# Altium integrated library Dallas Peripheral Real Time Clock.IntLib: 167 symbols (part 3 of 4)
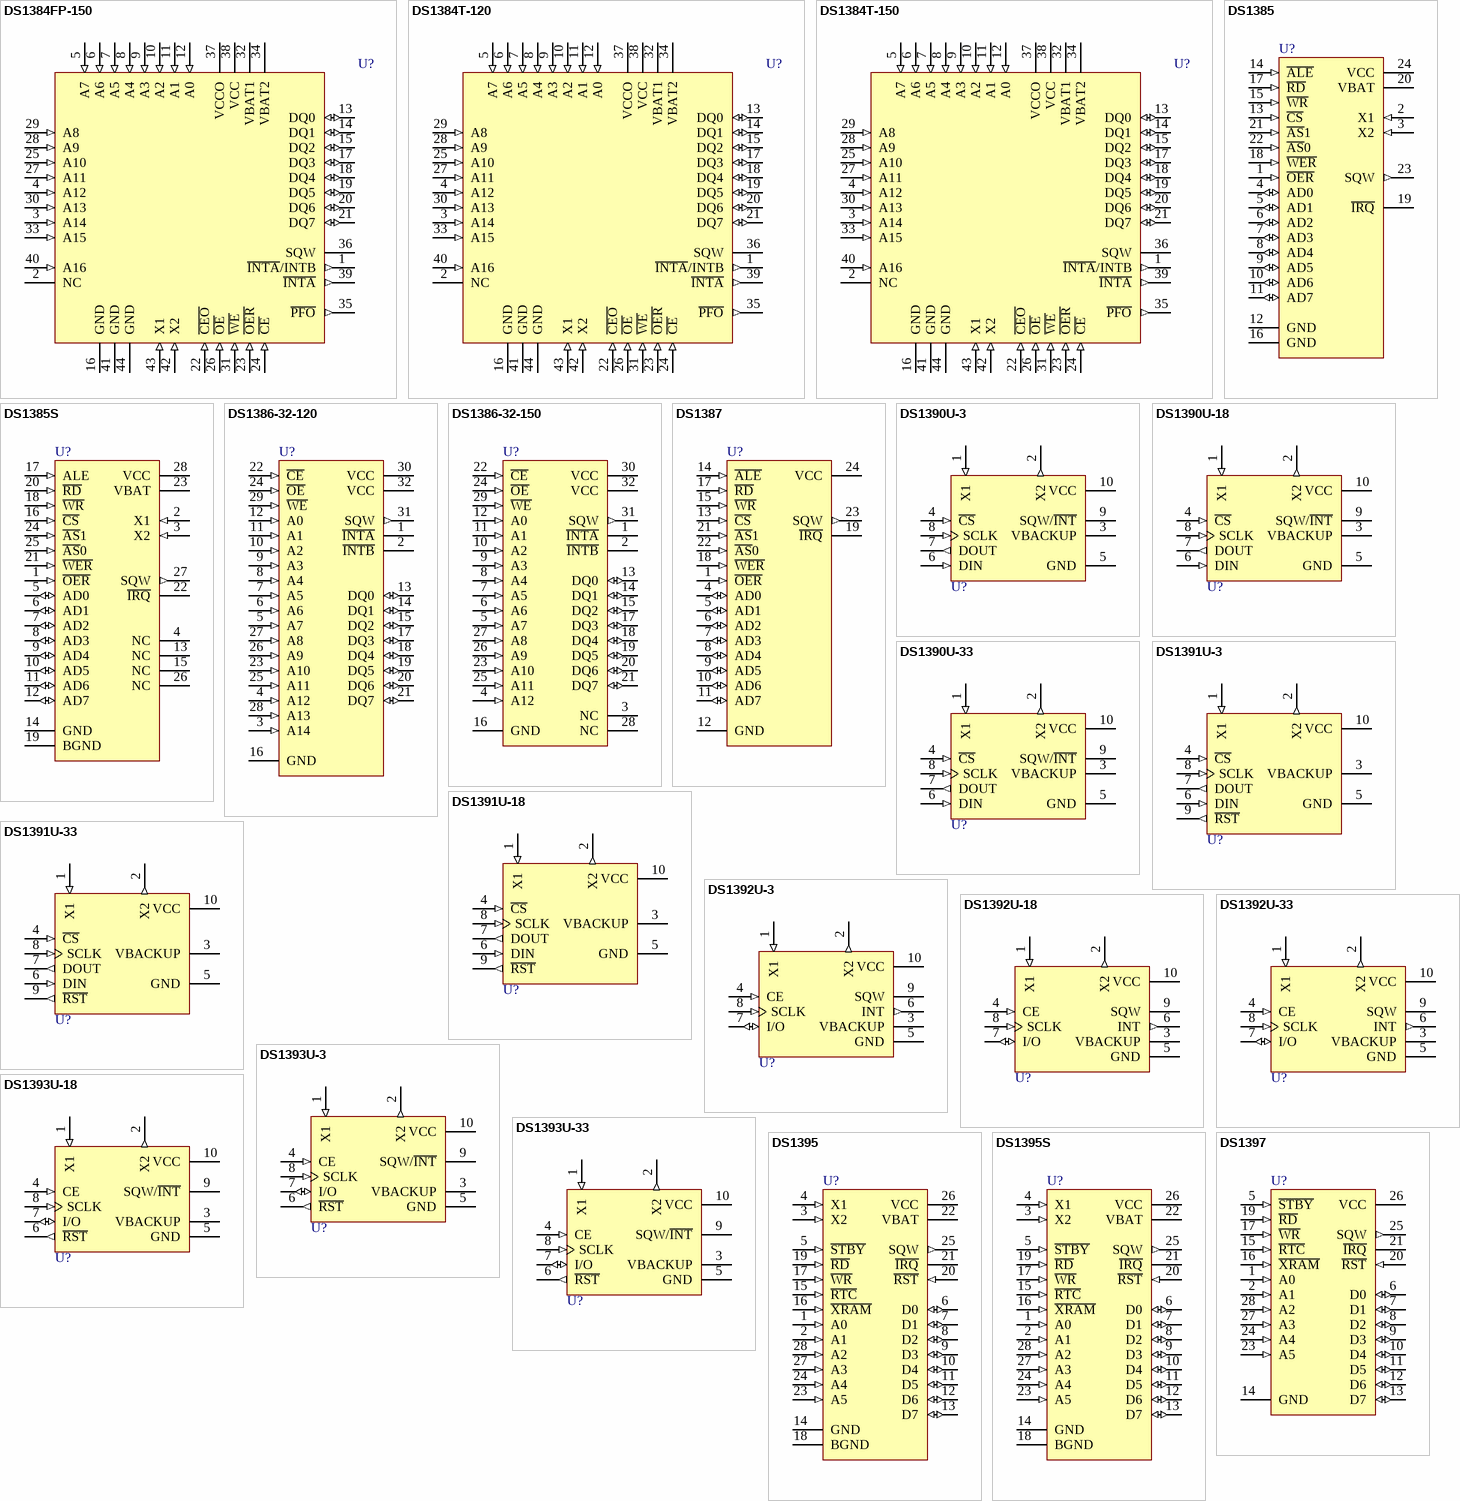
[diagram p8: symbols DS1384FP-150 to DS1397]

## DS1391U-3
designator U?
Real-Time Clock (RTC), Low-Voltage Serial-Peripheral Interface (SPI) with Trickle Charger, 3.0V, 10-Pin uMax/uSOP; Published: 6-Oct-2005; LatestRevisionDate: 20-Nov-2009; LatestRevisionNote: IPC-7351 Footprint Added.; DatasheetVersion: rev.0 Jul-2004; PackageVersion: Mar-2002; PackageReference: 10uSOP; Publisher: Altium Limited; PackageDescription: 10-Pin Thin Shrink Small Outline Package 0.5 mm Pitch; Code_JEDEC: MO-187C-BA; ComponentLink1Description: Manufacturer Link; ComponentLink1URL: http://www.maxim-ic.com/products/timers/real_time_clocks.cfm; ComponentLink2Description: Datasheet; ComponentLink2URL: http://pdfserv.maxim-ic.com/en/ds/DS1390-DS1393.pdf
footprint 10uSOP_N (TSSOP, 10-Leads, Body 3x3mm, Pitch 0.5mm, IPC Medium Density)
footprint 10uSOP_L (TSSOP, 10-Leads, Body 3x3mm, Pitch 0.5mm, IPC High Density)
footprint 10uSOP_M (TSSOP, 10-Leads, Body 3x3mm, Pitch 0.5mm, IPC Low Density)
pins: 1 X1 (in) "Internal Oscillator Input. Or connection to external 32.768kHz oscillator.", 2 X2 (out) "Internal Oscillator Output. Float if external oscillator connected to pin X1.", 3 VBACKUP (power) "DC Backup Power Input for Primary Cell.", 4 ~{CS} (in) "SPI Chip-Select Input. Used to select or deselect the device.", 5 GND (power) "Ground", 6 DIN (in) "SPI Data Input. Used to shift address and data into the device.", 7 DOUT (out) "SPI Data Output. Data is output when the device is in read mode.", 8 SCLK (in) "Serial Clock Input. Used to control the timing of data in and out.", 9 ~{RST} (out) "Reset. Active-low output indicates the status of VCC relative to the VPF specification.", 10 VCC (power) "DC Power Pin for Primary Power Supply."

## DS1391U-18
designator U?
Real-Time Clock (RTC), Low-Voltage Serial-Peripheral Interface (SPI) with Trickle Charger, 1.8V, 10-Pin uMax/uSOP; Published: 6-Oct-2005; LatestRevisionDate: 20-Nov-2009; LatestRevisionNote: IPC-7351 Footprint Added.; DatasheetVersion: rev.0 Jul-2004; PackageVersion: Mar-2002; PackageReference: 10uSOP; Publisher: Altium Limited; PackageDescription: 10-Pin Thin Shrink Small Outline Package 0.5 mm Pitch; Code_JEDEC: MO-187C-BA; ComponentLink1Description: Manufacturer Link; ComponentLink1URL: http://www.maxim-ic.com/products/timers/real_time_clocks.cfm; ComponentLink2Description: Datasheet; ComponentLink2URL: http://pdfserv.maxim-ic.com/en/ds/DS1390-DS1393.pdf
footprint 10uSOP_N (TSSOP, 10-Leads, Body 3x3mm, Pitch 0.5mm, IPC Medium Density)
footprint 10uSOP_L (TSSOP, 10-Leads, Body 3x3mm, Pitch 0.5mm, IPC High Density)
footprint 10uSOP_M (TSSOP, 10-Leads, Body 3x3mm, Pitch 0.5mm, IPC Low Density)
pins: 1 X1 (in) "Internal Oscillator Input. Or connection to external 32.768kHz oscillator.", 2 X2 (out) "Internal Oscillator Output. Float if external oscillator connected to pin X1.", 3 VBACKUP (power) "DC Backup Power Input for Primary Cell.", 4 ~{CS} (in) "SPI Chip-Select Input. Used to select or deselect the device.", 5 GND (power) "Ground", 6 DIN (in) "SPI Data Input. Used to shift address and data into the device.", 7 DOUT (out) "SPI Data Output. Data is output when the device is in read mode.", 8 SCLK (in) "Serial Clock Input. Used to control the timing of data in and out.", 9 ~{RST} (out) "Reset. Active-low output indicates the status of VCC relative to the VPF specification.", 10 VCC (power) "DC Power Pin for Primary Power Supply."

## DS1391U-33
designator U?
Real-Time Clock (RTC), Low-Voltage Serial-Peripheral Interface (SPI) with Trickle Charger, 3.3V, 10-Pin uMax/uSOP; Published: 6-Oct-2005; LatestRevisionDate: 20-Nov-2009; LatestRevisionNote: IPC-7351 Footprint Added.; DatasheetVersion: rev.0 Jul-2004; PackageVersion: Mar-2002; PackageReference: 10uSOP; Publisher: Altium Limited; PackageDescription: 10-Pin Thin Shrink Small Outline Package 0.5 mm Pitch; Code_JEDEC: MO-187C-BA; ComponentLink1Description: Manufacturer Link; ComponentLink1URL: http://www.maxim-ic.com/products/timers/real_time_clocks.cfm; ComponentLink2Description: Datasheet; ComponentLink2URL: http://pdfserv.maxim-ic.com/en/ds/DS1390-DS1393.pdf
footprint 10uSOP_N (TSSOP, 10-Leads, Body 3x3mm, Pitch 0.5mm, IPC Medium Density)
footprint 10uSOP_L (TSSOP, 10-Leads, Body 3x3mm, Pitch 0.5mm, IPC High Density)
footprint 10uSOP_M (TSSOP, 10-Leads, Body 3x3mm, Pitch 0.5mm, IPC Low Density)
pins: 1 X1 (in) "Internal Oscillator Input. Or connection to external 32.768kHz oscillator.", 2 X2 (out) "Internal Oscillator Output. Float if external oscillator connected to pin X1.", 3 VBACKUP (power) "DC Backup Power Input for Primary Cell.", 4 ~{CS} (in) "SPI Chip-Select Input. Used to select or deselect the device.", 5 GND (power) "Ground", 6 DIN (in) "SPI Data Input. Used to shift address and data into the device.", 7 DOUT (out) "SPI Data Output. Data is output when the device is in read mode.", 8 SCLK (in) "Serial Clock Input. Used to control the timing of data in and out.", 9 ~{RST} (out) "Reset. Active-low output indicates the status of VCC relative to the VPF specification.", 10 VCC (power) "DC Power Pin for Primary Power Supply."

## DS1392U-3
designator U?
Real-Time Clock (RTC), Low-Voltage 3-Wire Serial Bus with Trickle Charger, 3.0V, 10-Pin uMax/uSOP; Published: 6-Oct-2005; LatestRevisionDate: 20-Nov-2009; LatestRevisionNote: IPC-7351 Footprint Added.; DatasheetVersion: rev.0 Jul-2004; PackageVersion: Mar-2002; PackageReference: 10uSOP; Publisher: Altium Limited; PackageDescription: 10-Pin Thin Shrink Small Outline Package 0.5 mm Pitch; Code_JEDEC: MO-187C-BA; ComponentLink1Description: Manufacturer Link; ComponentLink1URL: http://www.maxim-ic.com/products/timers/real_time_clocks.cfm; ComponentLink2Description: Datasheet; ComponentLink2URL: http://pdfserv.maxim-ic.com/en/ds/DS1390-DS1393.pdf
footprint 10uSOP_N (TSSOP, 10-Leads, Body 3x3mm, Pitch 0.5mm, IPC Medium Density)
footprint 10uSOP_L (TSSOP, 10-Leads, Body 3x3mm, Pitch 0.5mm, IPC High Density)
footprint 10uSOP_M (TSSOP, 10-Leads, Body 3x3mm, Pitch 0.5mm, IPC Low Density)
pins: 1 X1 (in) "Internal Oscillator Input. Or connection to external 32.768kHz oscillator.", 2 X2 (out) "Internal Oscillator Output. Float if external oscillator connected to pin X1.", 3 VBACKUP (power) "DC Backup Power Input for Primary Cell.", 4 CE (in) "Chip Enable for 3-Wire Interface.", 5 GND (power) "Ground", 6 INT (out) "Interrupt Output. Used to output interrupt signal, if enabled by the control register.", 7 I/O (io) "Input/Output for 3-Wire Interface.", 8 SCLK (in) "Serial Clock Input. Used to control the timing of data in and out.", 9 SQW (oc) "Square-Wave Output.", 10 VCC (power) "DC Power Pin for Primary Power Supply."

## DS1392U-18
designator U?
Real-Time Clock (RTC), Low-Voltage 3-Wire Serial Bus with Trickle Charger, 1.8V, 10-Pin uMax/uSOP; Published: 6-Oct-2005; LatestRevisionDate: 20-Nov-2009; LatestRevisionNote: IPC-7351 Footprint Added.; DatasheetVersion: rev.0 Jul-2004; PackageVersion: Mar-2002; PackageReference: 10uSOP; Publisher: Altium Limited; PackageDescription: 10-Pin Thin Shrink Small Outline Package 0.5 mm Pitch; Code_JEDEC: MO-187C-BA; ComponentLink1Description: Manufacturer Link; ComponentLink1URL: http://www.maxim-ic.com/products/timers/real_time_clocks.cfm; ComponentLink2Description: Datasheet; ComponentLink2URL: http://pdfserv.maxim-ic.com/en/ds/DS1390-DS1393.pdf
footprint 10uSOP_N (TSSOP, 10-Leads, Body 3x3mm, Pitch 0.5mm, IPC Medium Density)
footprint 10uSOP_L (TSSOP, 10-Leads, Body 3x3mm, Pitch 0.5mm, IPC High Density)
footprint 10uSOP_M (TSSOP, 10-Leads, Body 3x3mm, Pitch 0.5mm, IPC Low Density)
pins: 1 X1 (in) "Internal Oscillator Input. Or connection to external 32.768kHz oscillator.", 2 X2 (out) "Internal Oscillator Output. Float if external oscillator connected to pin X1.", 3 VBACKUP (power) "DC Backup Power Input for Primary Cell.", 4 CE (in) "Chip Enable for 3-Wire Interface.", 5 GND (power) "Ground", 6 INT (out) "Interrupt Output. Used to output interrupt signal, if enabled by the control register.", 7 I/O (io) "Input/Output for 3-Wire Interface.", 8 SCLK (in) "Serial Clock Input. Used to control the timing of data in and out.", 9 SQW (oc) "Square-Wave Output.", 10 VCC (power) "DC Power Pin for Primary Power Supply."

## DS1392U-33
designator U?
Real-Time Clock (RTC), Low-Voltage 3-Wire Serial Bus with Trickle Charger, 3.3V, 10-Pin uMax/uSOP; Published: 6-Oct-2005; LatestRevisionDate: 20-Nov-2009; LatestRevisionNote: IPC-7351 Footprint Added.; DatasheetVersion: rev.0 Jul-2004; PackageVersion: Mar-2002; PackageReference: 10uSOP; Publisher: Altium Limited; PackageDescription: 10-Pin Thin Shrink Small Outline Package 0.5 mm Pitch; Code_JEDEC: MO-187C-BA; ComponentLink1Description: Manufacturer Link; ComponentLink1URL: http://www.maxim-ic.com/products/timers/real_time_clocks.cfm; ComponentLink2Description: Datasheet; ComponentLink2URL: http://pdfserv.maxim-ic.com/en/ds/DS1390-DS1393.pdf
footprint 10uSOP_N (TSSOP, 10-Leads, Body 3x3mm, Pitch 0.5mm, IPC Medium Density)
footprint 10uSOP_L (TSSOP, 10-Leads, Body 3x3mm, Pitch 0.5mm, IPC High Density)
footprint 10uSOP_M (TSSOP, 10-Leads, Body 3x3mm, Pitch 0.5mm, IPC Low Density)
pins: 1 X1 (in) "Internal Oscillator Input. Or connection to external 32.768kHz oscillator.", 2 X2 (out) "Internal Oscillator Output. Float if external oscillator connected to pin X1.", 3 VBACKUP (power) "DC Backup Power Input for Primary Cell.", 4 CE (in) "Chip Enable for 3-Wire Interface.", 5 GND (power) "Ground", 6 INT (out) "Interrupt Output. Used to output interrupt signal, if enabled by the control register.", 7 I/O (io) "Input/Output for 3-Wire Interface.", 8 SCLK (in) "Serial Clock Input. Used to control the timing of data in and out.", 9 SQW (oc) "Square-Wave Output.", 10 VCC (power) "DC Power Pin for Primary Power Supply."

## DS1393U-3
designator U?
Real-Time Clock (RTC), Low-Voltage 3-Wire Serial Bus with Trickle Charger, 3.0V, 10-Pin uMax/uSOP; Published: 6-Oct-2005; LatestRevisionDate: 20-Nov-2009; LatestRevisionNote: IPC-7351 Footprint Added.; DatasheetVersion: rev.0 Jul-2004; PackageVersion: Mar-2002; PackageReference: 10uSOP; Publisher: Altium Limited; PackageDescription: 10-Pin Thin Shrink Small Outline Package 0.5 mm Pitch; Code_JEDEC: MO-187C-BA; ComponentLink1Description: Manufacturer Link; ComponentLink1URL: http://www.maxim-ic.com/products/timers/real_time_clocks.cfm; ComponentLink2Description: Datasheet; ComponentLink2URL: http://pdfserv.maxim-ic.com/en/ds/DS1390-DS1393.pdf
footprint 10uSOP_N (TSSOP, 10-Leads, Body 3x3mm, Pitch 0.5mm, IPC Medium Density)
footprint 10uSOP_L (TSSOP, 10-Leads, Body 3x3mm, Pitch 0.5mm, IPC High Density)
footprint 10uSOP_M (TSSOP, 10-Leads, Body 3x3mm, Pitch 0.5mm, IPC Low Density)
pins: 1 X1 (in) "Internal Oscillator Input. Or connection to external 32.768kHz oscillator.", 2 X2 (out) "Internal Oscillator Output. Float if external oscillator connected to pin X1.", 3 VBACKUP (power) "DC Backup Power Input for Primary Cell.", 4 CE (in) "Chip Enable for 3-Wire Interface.", 5 GND (power) "Ground", 6 ~{RST} (out) "Reset. Active-low output indicates the status of VCC relative to the VPF specification.", 7 I/O (io) "Input/Output for 3-Wire Interface.", 8 SCLK (in) "Serial Clock Input. Used to control the timing of data in and out.", 9 SQW/~{INT} (oc) "Square-Wave/Interrupt Output.", 10 VCC (power) "DC Power Pin for Primary Power Supply."

## DS1393U-18
designator U?
Real-Time Clock (RTC), Low-Voltage 3-Wire Serial Bus with Trickle Charger, 1.8V, 10-Pin uMax/uSOP; Published: 6-Oct-2005; LatestRevisionDate: 20-Nov-2009; LatestRevisionNote: IPC-7351 Footprint Added.; DatasheetVersion: rev.0 Jul-2004; PackageVersion: Mar-2002; PackageReference: 10uSOP; Publisher: Altium Limited; PackageDescription: 10-Pin Thin Shrink Small Outline Package 0.5 mm Pitch; Code_JEDEC: MO-187C-BA; ComponentLink1Description: Manufacturer Link; ComponentLink1URL: http://www.maxim-ic.com/products/timers/real_time_clocks.cfm; ComponentLink2Description: Datasheet; ComponentLink2URL: http://pdfserv.maxim-ic.com/en/ds/DS1390-DS1393.pdf
footprint 10uSOP_N (TSSOP, 10-Leads, Body 3x3mm, Pitch 0.5mm, IPC Medium Density)
footprint 10uSOP_L (TSSOP, 10-Leads, Body 3x3mm, Pitch 0.5mm, IPC High Density)
footprint 10uSOP_M (TSSOP, 10-Leads, Body 3x3mm, Pitch 0.5mm, IPC Low Density)
pins: 1 X1 (in) "Internal Oscillator Input. Or connection to external 32.768kHz oscillator.", 2 X2 (out) "Internal Oscillator Output. Float if external oscillator connected to pin X1.", 3 VBACKUP (power) "DC Backup Power Input for Primary Cell.", 4 CE (in) "Chip Enable for 3-Wire Interface.", 5 GND (power) "Ground", 6 ~{RST} (out) "Reset. Active-low output indicates the status of VCC relative to the VPF specification.", 7 I/O (io) "Input/Output for 3-Wire Interface.", 8 SCLK (in) "Serial Clock Input. Used to control the timing of data in and out.", 9 SQW/~{INT} (oc) "Square-Wave/Interrupt Output.", 10 VCC (power) "DC Power Pin for Primary Power Supply."

## DS1393U-33
designator U?
Real-Time Clock (RTC), Low-Voltage 3-Wire Serial Bus with Trickle Charger, 3.3V, 10-Pin uMax/uSOP; Published: 6-Oct-2005; LatestRevisionDate: 20-Nov-2009; LatestRevisionNote: IPC-7351 Footprint Added.; DatasheetVersion: rev.0 Jul-2004; PackageVersion: Mar-2002; PackageReference: 10uSOP; Publisher: Altium Limited; PackageDescription: 10-Pin Thin Shrink Small Outline Package 0.5 mm Pitch; Code_JEDEC: MO-187C-BA; ComponentLink1Description: Manufacturer Link; ComponentLink1URL: http://www.maxim-ic.com/products/timers/real_time_clocks.cfm; ComponentLink2Description: Datasheet; ComponentLink2URL: http://pdfserv.maxim-ic.com/en/ds/DS1390-DS1393.pdf
footprint 10uSOP_N (TSSOP, 10-Leads, Body 3x3mm, Pitch 0.5mm, IPC Medium Density)
footprint 10uSOP_L (TSSOP, 10-Leads, Body 3x3mm, Pitch 0.5mm, IPC High Density)
footprint 10uSOP_M (TSSOP, 10-Leads, Body 3x3mm, Pitch 0.5mm, IPC Low Density)
pins: 1 X1 (in) "Internal Oscillator Input. Or connection to external 32.768kHz oscillator.", 2 X2 (out) "Internal Oscillator Output. Float if external oscillator connected to pin X1.", 3 VBACKUP (power) "DC Backup Power Input for Primary Cell.", 4 CE (in) "Chip Enable for 3-Wire Interface.", 5 GND (power) "Ground", 6 ~{RST} (out) "Reset. Active-low output indicates the status of VCC relative to the VPF specification.", 7 I/O (io) "Input/Output for 3-Wire Interface.", 8 SCLK (in) "Serial Clock Input. Used to control the timing of data in and out.", 9 SQW/~{INT} (oc) "Square-Wave/Interrupt Output.", 10 VCC (power) "DC Power Pin for Primary Power Supply."

## DS1395
designator U?
RAMified Real-Time Clock; Published: 13-Oct-2000; LatestRevisionDate: 17-Jul-2002; LatestRevisionNote: Re-released for DXP Platform.; DatasheetVersion: 8-May-1998; PackageVersion: 1999; PackageReference: DIP28W; Publisher: Altium Limited; PackageDescription: DIP, 28-Pin, Row Spacing 15.24 mm, Pitch 2.54 mm; ComponentLink1Description: Manufacturer Link; ComponentLink1URL: http://www.maxim-ic.com/
footprint DIP28W (DIP, 28-Leads, Row Spacing 15.24mm, Pitch 2.54mm, Body 37.02x13.72mm)
pins: 1 A0 (in), 2 A1 (in), 3 X2 (in), 4 X1 (in), 5 ~{STBY} (in), 6 D0 (io), 7 D1 (io), 8 D2 (io), 9 D3 (io), 10 D4 (io), 11 D5 (io), 12 D6 (io), 13 D7 (io), 14 GND (power), 15 ~{RTC} (in), 16 ~{XRAM} (in), 17 ~{WR} (in), 18 BGND (power), 19 ~{RD} (in), 20 ~{RST} (in), 21 ~{IRQ} (oc), 22 VBAT (power), 23 A5 (in), 24 A4 (in), 25 SQW (out), 26 VCC (power), 27 A3 (in), 28 A2 (in)

## DS1395S
designator U?
RAMified Real-Time Clock; Published: 13-Oct-2000; LatestRevisionDate: 13-Apr-2006; LatestRevisionNote: IPC-7351 Footprint Added.; DatasheetVersion: 8-May-1998; PackageVersion: 1999; PackageReference: SOIC28VW; Publisher: Altium Limited; PackageDescription: 28-Pin Small Outline Integrated Circuit 1.27 mm Pitch; ComponentLink1Description: Manufacturer Link; ComponentLink1URL: http://www.maxim-ic.com/
footprint SOIC28VW_N (SOIC, 28-Leads, Body 18.2x8.7mm, Pitch 1.27mm, IPC Medium Density)
footprint SOIC28VW_L (SOIC, 28-Leads, Body 18.2x8.7mm, Pitch 1.27mm, IPC High Density)
footprint SOIC28VW_M (SOIC, 28-Leads, Body 18.2x8.7mm, Pitch 1.27mm, IPC Low Density)
pins: 1 A0 (in), 2 A1 (in), 3 X2 (in), 4 X1 (in), 5 ~{STBY} (in), 6 D0 (io), 7 D1 (io), 8 D2 (io), 9 D3 (io), 10 D4 (io), 11 D5 (io), 12 D6 (io), 13 D7 (io), 14 GND (power), 15 ~{RTC} (in), 16 ~{XRAM} (in), 17 ~{WR} (in), 18 BGND (power), 19 ~{RD} (in), 20 ~{RST} (in), 21 ~{IRQ} (oc), 22 VBAT (power), 23 A5 (in), 24 A4 (in), 25 SQW (out), 26 VCC (power), 27 A3 (in), 28 A2 (in)

## DS1397
designator U?
RAMified Real-Time Clock; Note: Pin numbers  3, 4, 18 and 22 are Not Connected (NC); Published: 13-Oct-2000; LatestRevisionDate: 17-Jul-2002; LatestRevisionNote: PCB footprint, 'DIP-P24(28)/X1.2' replaced; Re-released for DXP Platform.; DatasheetVersion: 8-May-1998; PackageReference: ENDIP28J; Publisher: Altium Limited; PackageDescription: DIP; 28 Rectangular pins (4 Absent); Row Space 15.24 mm; Pitch 2.54 mm; ComponentLink1Description: Manufacturer Link; ComponentLink1URL: http://www.maxim-ic.com/
footprint ENDIP28J (DIP; 28 Rectangular pins (4 Absent); Row Space 15.24 mm; Pitch 2.54 mm)
pins: 1 A0 (in), 2 A1 (in), 5 ~{STBY} (in), 6 D0 (io), 7 D1 (io), 8 D2 (io), 9 D3 (io), 10 D4 (io), 11 D5 (io), 12 D6 (io), 13 D7 (io), 14 GND (power), 15 ~{RTC} (in), 16 ~{XRAM} (in), 17 ~{WR} (in), 19 ~{RD} (in), 20 ~{RST} (in), 21 ~{IRQ} (oc), 23 A5 (in), 24 A4 (in), 25 SQW (out), 26 VCC (power), 27 A3 (in), 28 A2 (in)

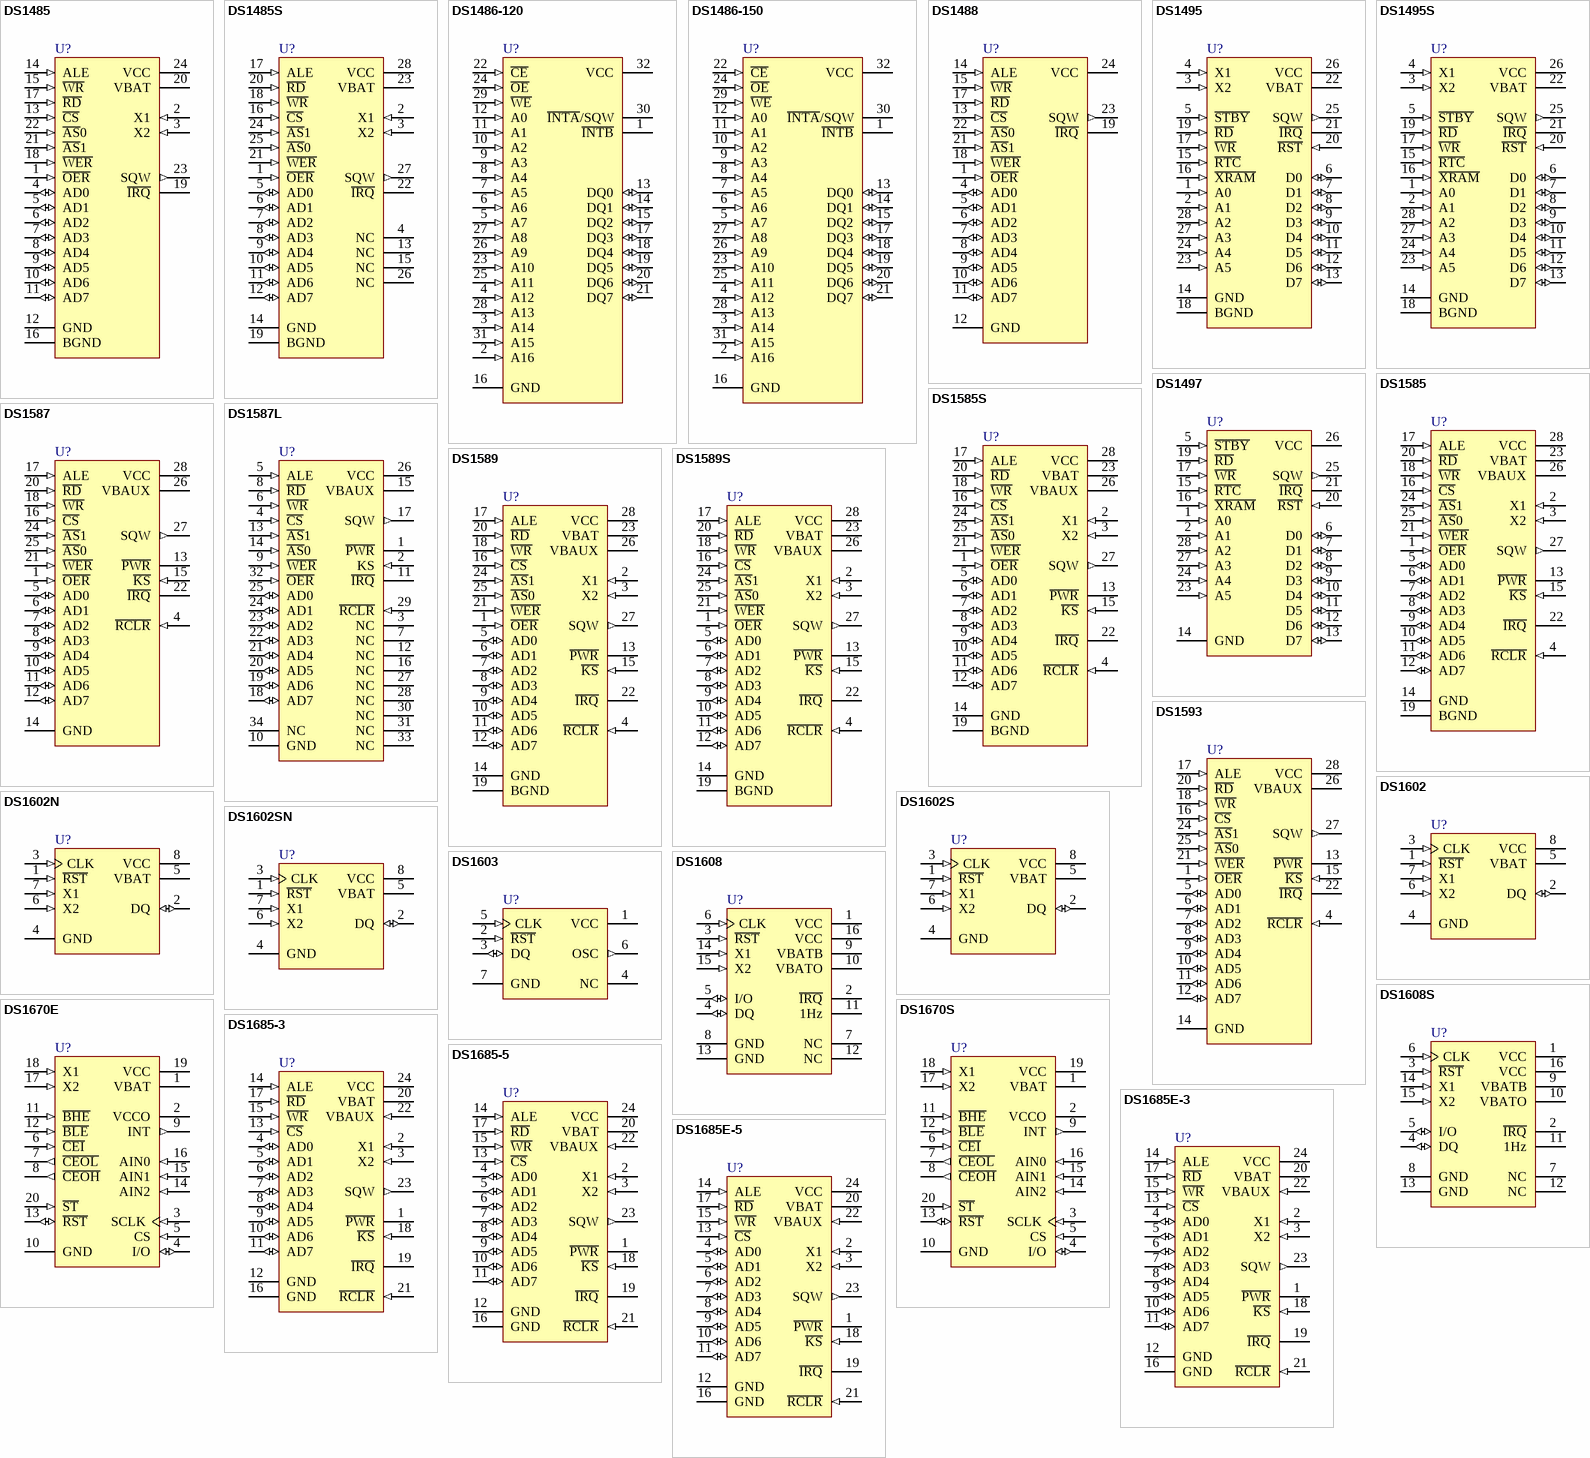
[diagram p4: symbols DS1485 to DS1685E-5]

## DS1485
designator U?
RAMified Real-Time Clock 8K x 8; Published: 13-Oct-2000; LatestRevisionDate: 17-Jul-2002; LatestRevisionNote: Re-released for DXP Platform.; DatasheetVersion: 8-May-1998; PackageVersion: 1999; PackageReference: DIP24W; Publisher: Altium Limited; PackageDescription: DIP, 24-Pin, Row Spacing 15.24 mm, Pitch 2.54 mm; ComponentLink1Description: Manufacturer Link; ComponentLink1URL: http://www.maxim-ic.com/
footprint DIP24W (DIP, 24-Leads, Row Spacing 15.24mm, Pitch 2.54mm, Body 31.94x13.72mm)
pins: 1 ~{OER} (in), 2 X1 (in), 3 X2 (in), 4 AD0 (io), 5 AD1 (io), 6 AD2 (io), 7 AD3 (io), 8 AD4 (io), 9 AD5 (io), 10 AD6 (io), 11 AD7 (io), 12 GND (power), 13 ~{CS} (in), 14 ALE (in), 15 ~{WR} (in), 16 BGND (power), 17 ~{RD} (in), 18 ~{WER} (in), 19 ~{IRQ} (oc), 20 VBAT (power), 21 ~{AS}1 (in), 22 ~{AS}0 (in), 23 SQW (out), 24 VCC (power)

## DS1485S
designator U?
RAMified Real-Time Clock 8K x 8; Note: Pin numbers  4, 13, 15 and 26 are Not Connected (NC); Published: 13-Oct-2000; LatestRevisionDate: 13-Apr-2006; LatestRevisionNote: IPC-7351 Footprint Added.; DatasheetVersion: 8-May-1998; PackageVersion: 1999; PackageReference: SOIC28VW; Publisher: Altium Limited; PackageDescription: 28-Pin Small Outline Integrated Circuit 1.27 mm Pitch; ComponentLink1Description: Manufacturer Link; ComponentLink1URL: http://www.maxim-ic.com/
footprint SOIC28VW_N (SOIC, 28-Leads, Body 18.2x8.7mm, Pitch 1.27mm, IPC Medium Density)
footprint SOIC28VW_L (SOIC, 28-Leads, Body 18.2x8.7mm, Pitch 1.27mm, IPC High Density)
footprint SOIC28VW_M (SOIC, 28-Leads, Body 18.2x8.7mm, Pitch 1.27mm, IPC Low Density)
pins: 1 ~{OER} (in), 2 X1 (in), 3 X2 (in), 4 NC, 5 AD0 (io), 6 AD1 (io), 7 AD2 (io), 8 AD3 (io), 9 AD4 (io), 10 AD5 (io), 11 AD6 (io), 12 AD7 (io), 13 NC, 14 GND (power), 15 NC, 16 ~{CS} (in), 17 ALE (in), 18 ~{WR} (in), 19 BGND (power), 20 ~{RD} (in), 21 ~{WER} (in), 22 ~{IRQ} (oc), 23 VBAT (power), 24 ~{AS}1 (in), 25 ~{AS}0 (in), 26 NC, 27 SQW (out), 28 VCC (power)

## DS1486-120
designator U?
RAMified Watchdog Timekeeper; Published: 13-Oct-2000; LatestRevisionDate: 17-Jul-2002; LatestRevisionNote: PCB footprint, 'DIP-P32/Y1.2' replaced; Re-released for DXP Platform.; DatasheetVersion: 20-Aug-1999; PackageReference: ENDIP32A; Publisher: Altium Limited; PackageDescription: DIP; 32 Rectangular Pins; Row Space 15.24 mm; Pitch 2.54 mm; ComponentLink1Description: Manufacturer Link; ComponentLink1URL: http://www.maxim-ic.com/; ComponentLink2Description: Datasheet; ComponentLink2URL: http://pdfserv.maxim-ic.com/en/ds/DS1486-DS1486P.pdf; ComponentLink3Description: Discontinuation Notice; ComponentLink3URL: http://www.maxim-ic.com/qa/pdfs/non-obsolescence-letter.pdf
footprint ENDIP32A (DIP; 32 Rectangular Pins; Row Space 15.24 mm; Pitch 2.54 mm)
pins: 1 ~{INTB} (oc), 2 A16 (in), 3 A14 (in), 4 A12 (in), 5 A7 (in), 6 A6 (in), 7 A5 (in), 8 A4 (in), 9 A3 (in), 10 A2 (in), 11 A1 (in), 12 A0 (in), 13 DQ0 (io), 14 DQ1 (io), 15 DQ2 (io), 16 GND (power), 17 DQ3 (io), 18 DQ4 (io), 19 DQ5 (io), 20 DQ6 (io), 21 DQ7 (io), 22 ~{CE} (in), 23 A10 (in), 24 ~{OE} (in), 25 A11 (in), 26 A9 (in), 27 A8 (in), 28 A13 (in), 29 ~{WE} (in), 30 ~{INTA}/SQW (oc), 31 A15 (in), 32 VCC (power)

## DS1486-150
designator U?
RAMified Watchdog Timekeeper; Published: 13-Oct-2000; LatestRevisionDate: 17-Jul-2002; LatestRevisionNote: PCB footprint, 'DIP-P32/Y1.2' replaced; Re-released for DXP Platform.; DatasheetVersion: 20-Aug-1999; PackageReference: ENDIP32A; Publisher: Altium Limited; PackageDescription: DIP; 32 Rectangular Pins; Row Space 15.24 mm; Pitch 2.54 mm; ComponentLink1Description: Manufacturer Link; ComponentLink1URL: http://www.maxim-ic.com/; ComponentLink2Description: Datasheet; ComponentLink2URL: http://pdfserv.maxim-ic.com/en/ds/DS1486-DS1486P.pdf; ComponentLink3Description: Discontinuation Notice; ComponentLink3URL: http://www.maxim-ic.com/qa/pdfs/non-obsolescence-letter.pdf
footprint ENDIP32A (DIP; 32 Rectangular Pins; Row Space 15.24 mm; Pitch 2.54 mm)
pins: 1 ~{INTB} (oc), 2 A16 (in), 3 A14 (in), 4 A12 (in), 5 A7 (in), 6 A6 (in), 7 A5 (in), 8 A4 (in), 9 A3 (in), 10 A2 (in), 11 A1 (in), 12 A0 (in), 13 DQ0 (io), 14 DQ1 (io), 15 DQ2 (io), 16 GND (power), 17 DQ3 (io), 18 DQ4 (io), 19 DQ5 (io), 20 DQ6 (io), 21 DQ7 (io), 22 ~{CE} (in), 23 A10 (in), 24 ~{OE} (in), 25 A11 (in), 26 A9 (in), 27 A8 (in), 28 A13 (in), 29 ~{WE} (in), 30 ~{INTA}/SQW (oc), 31 A15 (in), 32 VCC (power)

## DS1488
designator U?
RAMified Real-Time Clock 8K x 8; Note: Pin numbers  2, 3, 16 and 20 are Not Connected (NC); Published: 13-Oct-2000; LatestRevisionDate: 17-Jul-2002; LatestRevisionNote: Re-released for DXP Platform.; DatasheetVersion: 8-May-1998; PackageReference: ENDIP24D; Publisher: Altium Limited; PackageDescription: DIP; 24 Rectangular pins (4 Absent); Row Space 15.24 mm; Pitch 2.54 mm; ComponentLink1Description: Manufacturer Link; ComponentLink1URL: http://www.maxim-ic.com/
footprint ENDIP24D (DIP; 24 Rectangular pins (4 Absent); Row Space 15.24 mm; Pitch 2.54 mm)
pins: 1 ~{OER} (in), 4 AD0 (io), 5 AD1 (io), 6 AD2 (io), 7 AD3 (io), 8 AD4 (io), 9 AD5 (io), 10 AD6 (io), 11 AD7 (io), 12 GND (power), 13 ~{CS} (in), 14 ALE (in), 15 ~{WR} (in), 17 ~{RD} (in), 18 ~{WER} (in), 19 ~{IRQ} (oc), 21 ~{AS}1 (in), 22 ~{AS}0 (in), 23 SQW (out), 24 VCC (power)

## DS1495
designator U?
RAMified Real-Time Clock; Published: 13-Oct-2000; LatestRevisionDate: 17-Jul-2002; LatestRevisionNote: Re-released for DXP Platform.; DatasheetVersion: 8-May-1998; PackageVersion: 1999; PackageReference: DIP28W; Publisher: Altium Limited; PackageDescription: DIP, 28-Pin, Row Spacing 15.24 mm, Pitch 2.54 mm; ComponentLink1Description: Manufacturer Link; ComponentLink1URL: http://www.maxim-ic.com/
footprint DIP28W (DIP, 28-Leads, Row Spacing 15.24mm, Pitch 2.54mm, Body 37.02x13.72mm)
pins: 1 A0 (in), 2 A1 (in), 3 X2 (in), 4 X1 (in), 5 ~{STBY} (in), 6 D0 (io), 7 D1 (io), 8 D2 (io), 9 D3 (io), 10 D4 (io), 11 D5 (io), 12 D6 (io), 13 D7 (io), 14 GND (power), 15 ~{RTC} (in), 16 ~{XRAM} (in), 17 ~{WR} (in), 18 BGND (power), 19 ~{RD} (in), 20 ~{RST} (in), 21 ~{IRQ} (oc), 22 VBAT (power), 23 A5 (in), 24 A4 (in), 25 SQW (out), 26 VCC (power), 27 A3 (in), 28 A2 (in)

## DS1495S
designator U?
RAMified Real-Time Clock; Published: 13-Oct-2000; LatestRevisionDate: 13-Apr-2006; LatestRevisionNote: IPC-7351 Footprint Added.; DatasheetVersion: 8-May-1998; PackageVersion: 1999; PackageReference: SOIC28VW; Publisher: Altium Limited; PackageDescription: 28-Pin Small Outline Integrated Circuit 1.27 mm Pitch; ComponentLink1Description: Manufacturer Link; ComponentLink1URL: http://www.maxim-ic.com/
footprint SOIC28VW_N (SOIC, 28-Leads, Body 18.2x8.7mm, Pitch 1.27mm, IPC Medium Density)
footprint SOIC28VW_L (SOIC, 28-Leads, Body 18.2x8.7mm, Pitch 1.27mm, IPC High Density)
footprint SOIC28VW_M (SOIC, 28-Leads, Body 18.2x8.7mm, Pitch 1.27mm, IPC Low Density)
pins: 1 A0 (in), 2 A1 (in), 3 X2 (in), 4 X1 (in), 5 ~{STBY} (in), 6 D0 (io), 7 D1 (io), 8 D2 (io), 9 D3 (io), 10 D4 (io), 11 D5 (io), 12 D6 (io), 13 D7 (io), 14 GND (power), 15 ~{RTC} (in), 16 ~{XRAM} (in), 17 ~{WR} (in), 18 BGND (power), 19 ~{RD} (in), 20 ~{RST} (in), 21 ~{IRQ} (oc), 22 VBAT (power), 23 A5 (in), 24 A4 (in), 25 SQW (out), 26 VCC (power), 27 A3 (in), 28 A2 (in)

## DS1497
designator U?
RAMified Real-Time Clock; Note: Pin numbers  3, 4, 18 and 22 are Not Connected (NC); Published: 13-Oct-2000; LatestRevisionDate: 17-Jul-2002; LatestRevisionNote: PCB footprint, 'DIP-P24(28)/X1.2' replaced; Re-released for DXP Platform.; DatasheetVersion: 8-May-1998; PackageReference: ENDIP28J; Publisher: Altium Limited; PackageDescription: DIP; 28 Rectangular pins (4 Absent); Row Space 15.24 mm; Pitch 2.54 mm; ComponentLink1Description: Manufacturer Link; ComponentLink1URL: http://www.maxim-ic.com/
footprint ENDIP28J (DIP; 28 Rectangular pins (4 Absent); Row Space 15.24 mm; Pitch 2.54 mm)
pins: 1 A0 (in), 2 A1 (in), 5 ~{STBY} (in), 6 D0 (io), 7 D1 (io), 8 D2 (io), 9 D3 (io), 10 D4 (io), 11 D5 (io), 12 D6 (io), 13 D7 (io), 14 GND (power), 15 ~{RTC} (in), 16 ~{XRAM} (in), 17 ~{WR} (in), 19 ~{RD} (in), 20 ~{RST} (in), 21 ~{IRQ} (oc), 23 A5 (in), 24 A4 (in), 25 SQW (out), 26 VCC (power), 27 A3 (in), 28 A2 (in)

## DS1585
designator U?
Serialized Real-Time Clock; Published: 13-Oct-2000; LatestRevisionDate: 17-Jul-2002; LatestRevisionNote: Re-released for DXP Platform.; DatasheetVersion: 8-May-1998; PackageVersion: 1999; PackageReference: DIP28W; Publisher: Altium Limited; PackageDescription: DIP, 28-Pin, Row Spacing 15.24 mm, Pitch 2.54 mm; ComponentLink1Description: Manufacturer Link; ComponentLink1URL: http://www.maxim-ic.com/
footprint DIP28W (DIP, 28-Leads, Row Spacing 15.24mm, Pitch 2.54mm, Body 37.02x13.72mm)
pins: 1 ~{OER} (in), 2 X1 (in), 3 X2 (in), 4 ~{RCLR} (in), 5 AD0 (io), 6 AD1 (io), 7 AD2 (io), 8 AD3 (io), 9 AD4 (io), 10 AD5 (io), 11 AD6 (io), 12 AD7 (io), 13 ~{PWR} (oc), 14 GND (power), 15 ~{KS} (in), 16 ~{CS} (in), 17 ALE (in), 18 ~{WR} (in), 19 BGND (power), 20 ~{RD} (in), 21 ~{WER} (in), 22 ~{IRQ} (oc), 23 VBAT (power), 24 ~{AS}1 (in), 25 ~{AS}0 (in), 26 VBAUX (power), 27 SQW (out), 28 VCC (power)

## DS1585S
designator U?
Serialized Real-Time Clock; Published: 13-Oct-2000; LatestRevisionDate: 13-Apr-2006; LatestRevisionNote: IPC-7351 Footprint Added.; DatasheetVersion: 8-May-1998; PackageVersion: 1999; PackageReference: SOIC28VW; Publisher: Altium Limited; PackageDescription: 28-Pin Small Outline Integrated Circuit 1.27 mm Pitch; ComponentLink1Description: Manufacturer Link; ComponentLink1URL: http://www.maxim-ic.com/
footprint SOIC28VW_N (SOIC, 28-Leads, Body 18.2x8.7mm, Pitch 1.27mm, IPC Medium Density)
footprint SOIC28VW_L (SOIC, 28-Leads, Body 18.2x8.7mm, Pitch 1.27mm, IPC High Density)
footprint SOIC28VW_M (SOIC, 28-Leads, Body 18.2x8.7mm, Pitch 1.27mm, IPC Low Density)
pins: 1 ~{OER} (in), 2 X1 (in), 3 X2 (in), 4 ~{RCLR} (in), 5 AD0 (io), 6 AD1 (io), 7 AD2 (io), 8 AD3 (io), 9 AD4 (io), 10 AD5 (io), 11 AD6 (io), 12 AD7 (io), 13 ~{PWR} (oc), 14 GND (power), 15 ~{KS} (in), 16 ~{CS} (in), 17 ALE (in), 18 ~{WR} (in), 19 BGND (power), 20 ~{RD} (in), 21 ~{WER} (in), 22 ~{IRQ} (oc), 23 VBAT (power), 24 ~{AS}1 (in), 25 ~{AS}0 (in), 26 VBAUX (power), 27 SQW (out), 28 VCC (power)

## DS1587
designator U?
Serialized Real-Time Clock; Note: Pin numbers  2, 3, 19 and 23 are Not Connected (NC); Published: 13-Oct-2000; LatestRevisionDate: 17-Jul-2002; LatestRevisionNote: Re-released for DXP Platform.; DatasheetVersion: 8-May-1998; PackageReference: ENDIP28H; Publisher: Altium Limited; PackageDescription: DIP; 28 Rectangular pins (4 Absent); Row Space 15.24 mm; Pitch 2.54 mm; ComponentLink1Description: Manufacturer Link; ComponentLink1URL: http://www.maxim-ic.com/
footprint ENDIP28H (DIP; 28 Rectangular pins (4 Absent); Row Space 15.24 mm; Pitch 2.54 mm)
pins: 1 ~{OER} (in), 4 ~{RCLR} (in), 5 AD0 (io), 6 AD1 (io), 7 AD2 (io), 8 AD3 (io), 9 AD4 (io), 10 AD5 (io), 11 AD6 (io), 12 AD7 (io), 13 ~{PWR} (oc), 14 GND (power), 15 ~{KS} (in), 16 ~{CS} (in), 17 ALE (in), 18 ~{WR} (in), 20 ~{RD} (in), 21 ~{WER} (in), 22 ~{IRQ} (oc), 24 ~{AS}1 (in), 25 ~{AS}0 (in), 26 VBAUX (power), 27 SQW (out), 28 VCC (power)

## DS1587L
designator U?
Serialized Real-Time Clock; Note: Pin numbers  3, 7, 12, 16, 27, 28, 30, 31, 33 and 34 are Not Connected (NC); Published: 13-Oct-2000; LatestRevisionDate: 17-Jul-2002; LatestRevisionNote: Re-released for DXP Platform.; DatasheetVersion: 19-Apr-1994; PackageVersion: Apr-1998; PackageReference: LPM34A; Publisher: Altium Limited; PackageDescription: LPM; 34 Leads; Body 24.4 x 25 mm (LxW typ); Pitch 1.27 mm; ComponentLink1Description: Manufacturer Link; ComponentLink1URL: http://www.maxim-ic.com/
footprint LPM34A (LPM; 34 Leads; Body 24.4 x 25 mm (LxW typ); Pitch 1.27 mm)
pins: 1 ~{PWR} (oc), 2 KS (in), 3 NC, 4 ~{CS} (in), 5 ALE (in), 6 ~{WR} (in), 7 NC, 8 ~{RD} (in), 9 ~{WER} (in), 10 GND (power), 11 ~{IRQ} (oc), 12 NC, 13 ~{AS}1 (in), 14 ~{AS}0 (in), 15 VBAUX (power), 16 NC, 17 SQW (out), 18 AD7 (io), 19 AD6 (io), 20 AD5 (io), 21 AD4 (io), 22 AD3 (io), 23 AD2 (io), 24 AD1 (io), 25 AD0 (io), 26 VCC (power), 27 NC, 28 NC, 29 ~{RCLR} (in), 30 NC, 31 NC, 32 ~{OER} (in), 33 NC, 34 NC

## DS1589
designator U?
Serialized Real-Time Clock; Published: 13-Oct-2000; LatestRevisionDate: 17-Jul-2002; LatestRevisionNote: Re-released for DXP Platform.; DatasheetVersion: 5-Mar-1998; PackageVersion: 1999; PackageReference: DIP28W; Publisher: Altium Limited; PackageDescription: DIP, 28-Pin, Row Spacing 15.24 mm, Pitch 2.54 mm; ComponentLink1Description: Manufacturer Link; ComponentLink1URL: http://www.maxim-ic.com/
footprint DIP28W (DIP, 28-Leads, Row Spacing 15.24mm, Pitch 2.54mm, Body 37.02x13.72mm)
pins: 1 ~{OER} (in), 2 X1 (in), 3 X2 (in), 4 ~{RCLR} (in), 5 AD0 (io), 6 AD1 (io), 7 AD2 (io), 8 AD3 (io), 9 AD4 (io), 10 AD5 (io), 11 AD6 (io), 12 AD7 (io), 13 ~{PWR} (oc), 14 GND (power), 15 ~{KS} (in), 16 ~{CS} (in), 17 ALE (in), 18 ~{WR} (in), 19 BGND (power), 20 ~{RD} (in), 21 ~{WER} (in), 22 ~{IRQ} (oc), 23 VBAT (power), 24 ~{AS}1 (in), 25 ~{AS}0 (in), 26 VBAUX (power), 27 SQW (out), 28 VCC (power)

## DS1589S
designator U?
Serialized Real-Time Clock; Published: 13-Oct-2000; LatestRevisionDate: 13-Apr-2006; LatestRevisionNote: IPC-7351 Footprint Added.; DatasheetVersion: 5-Mar-1998; PackageVersion: 1999; PackageReference: SOIC28VW; Publisher: Altium Limited; PackageDescription: 28-Pin Small Outline Integrated Circuit 1.27 mm Pitch; ComponentLink1Description: Manufacturer Link; ComponentLink1URL: http://www.maxim-ic.com/
footprint SOIC28VW_N (SOIC, 28-Leads, Body 18.2x8.7mm, Pitch 1.27mm, IPC Medium Density)
footprint SOIC28VW_L (SOIC, 28-Leads, Body 18.2x8.7mm, Pitch 1.27mm, IPC High Density)
footprint SOIC28VW_M (SOIC, 28-Leads, Body 18.2x8.7mm, Pitch 1.27mm, IPC Low Density)
pins: 1 ~{OER} (in), 2 X1 (in), 3 X2 (in), 4 ~{RCLR} (in), 5 AD0 (io), 6 AD1 (io), 7 AD2 (io), 8 AD3 (io), 9 AD4 (io), 10 AD5 (io), 11 AD6 (io), 12 AD7 (io), 13 ~{PWR} (oc), 14 GND (power), 15 ~{KS} (in), 16 ~{CS} (in), 17 ALE (in), 18 ~{WR} (in), 19 BGND (power), 20 ~{RD} (in), 21 ~{WER} (in), 22 ~{IRQ} (oc), 23 VBAT (power), 24 ~{AS}1 (in), 25 ~{AS}0 (in), 26 VBAUX (power), 27 SQW (out), 28 VCC (power)

## DS1593
designator U?
Serialized Real-Time Clock; Note: Pin numbers  2, 3, 19 and 23 are Not Connected (NC); Published: 13-Oct-2000; LatestRevisionDate: 17-Jul-2002; LatestRevisionNote: Re-released for DXP Platform.; DatasheetVersion: 5-Mar-1998; PackageReference: ENDIP28H; Publisher: Altium Limited; PackageDescription: DIP; 28 Rectangular pins (4 Absent); Row Space 15.24 mm; Pitch 2.54 mm; ComponentLink1Description: Manufacturer Link; ComponentLink1URL: http://www.maxim-ic.com/
footprint ENDIP28H (DIP; 28 Rectangular pins (4 Absent); Row Space 15.24 mm; Pitch 2.54 mm)
pins: 1 ~{OER} (in), 4 ~{RCLR} (in), 5 AD0 (io), 6 AD1 (io), 7 AD2 (io), 8 AD3 (io), 9 AD4 (io), 10 AD5 (io), 11 AD6 (io), 12 AD7 (io), 13 ~{PWR} (oc), 14 GND (power), 15 ~{KS} (in), 16 ~{CS} (in), 17 ALE (in), 18 ~{WR} (in), 20 ~{RD} (in), 21 ~{WER} (in), 22 ~{IRQ} (oc), 24 ~{AS}1 (in), 25 ~{AS}0 (in), 26 VBAUX (power), 27 SQW (out), 28 VCC (power)

## DS1602
designator U?
Elapsed Time Counter; Published: 13-Oct-2000; LatestRevisionDate: 17-Jul-2002; LatestRevisionNote: Re-released for DXP Platform.; DatasheetVersion: Jul-1999; PackageVersion: 1999; PackageReference: DIP8; Publisher: Altium Limited; PackageDescription: DIP, 8-Pin, Row Spacing 7.62 mm, Pitch 2.54 mm; ComponentLink1Description: Manufacturer Link; ComponentLink1URL: http://www.maxim-ic.com/; ComponentLink2Description: Datasheet; ComponentLink2URL: http://pdfserv.maxim-ic.com/en/ds/DS1602.pdf; ComponentLink3Description: Discontinuation Notice; ComponentLink3URL: http://www.maxim-ic.com/qa/pdfs/non-obsolescence-letter.pdf
footprint DIP8 (DIP, 8-Leads, Row Spacing 7.62mm, Pitch 2.54mm, Body 9.65x6.35mm)
pins: 1 ~{RST} (in), 2 DQ (io), 3 CLK (in), 4 GND (power), 5 VBAT (power), 6 X2 (in), 7 X1 (in), 8 VCC (power)

## DS1602N
designator U?
Elapsed Time Counter; Published: 13-Oct-2000; LatestRevisionDate: 17-Jul-2002; LatestRevisionNote: Re-released for DXP Platform.; DatasheetVersion: 14-Feb-1992; PackageVersion: 1999; PackageReference: DIP8; Publisher: Altium Limited; PackageDescription: DIP, 8-Pin, Row Spacing 7.62 mm, Pitch 2.54 mm; ComponentLink1Description: Manufacturer Link; ComponentLink1URL: http://www.maxim-ic.com/; ComponentLink2Description: Datasheet; ComponentLink2URL: http://pdfserv.maxim-ic.com/en/ds/DS1602_C.pdf; ComponentLink3Description: Discontinuation Notice; ComponentLink3URL: http://www.maxim-ic.com/qa/pdfs/non-obsolescence-letter.pdf
footprint DIP8 (DIP, 8-Leads, Row Spacing 7.62mm, Pitch 2.54mm, Body 9.65x6.35mm)
pins: 1 ~{RST} (in), 2 DQ (io), 3 CLK (in), 4 GND (power), 5 VBAT (power), 6 X2 (in), 7 X1 (in), 8 VCC (power)

## DS1602S
designator U?
Elapsed Time Counter; Published: 13-Oct-2000; LatestRevisionDate: 13-Apr-2006; LatestRevisionNote: IPC-7351 Footprint Added.; DatasheetVersion: Jul-1999; PackageVersion: 1994; PackageReference: SOIC8WA; Publisher: Altium Limited; PackageDescription: 8-Pin Small Outline Package 1.27 mm Pitch; ComponentLink1Description: Manufacturer Link; ComponentLink1URL: http://www.maxim-ic.com/; ComponentLink2Description: Datasheet; ComponentLink2URL: http://pdfserv.maxim-ic.com/en/ds/DS1602.pdf; ComponentLink3Description: Discontinuation Notice; ComponentLink3URL: http://www.maxim-ic.com/qa/pdfs/non-obsolescence-letter.pdf
footprint SOIC8WA_N (SOP, 8-Leads, Body 5.3x5.3mm, Pitch 1.27mm, IPC Medium Density)
footprint SOIC8WA_L (SOP, 8-Leads, Body 5.3x5.3mm, Pitch 1.27mm, IPC High Density)
footprint SOIC8WA_M (SOP, 8-Leads, Body 5.3x5.3mm, Pitch 1.27mm, IPC Low Density)
pins: 1 ~{RST} (in), 2 DQ (io), 3 CLK (in), 4 GND (power), 5 VBAT (power), 6 X2 (in), 7 X1 (in), 8 VCC (power)

## DS1602SN
designator U?
Elapsed Time Counter; Published: 13-Oct-2000; LatestRevisionDate: 13-Apr-2006; LatestRevisionNote: IPC-7351 Footprint Added.; DatasheetVersion: 14-Feb-1992; PackageVersion: 1994; PackageReference: SOIC8WA; Publisher: Altium Limited; PackageDescription: 8-Pin Small Outline Package 1.27 mm Pitch; ComponentLink1Description: Manufacturer Link; ComponentLink1URL: http://www.maxim-ic.com/; ComponentLink2Description: Datasheet; ComponentLink2URL: http://pdfserv.maxim-ic.com/en/ds/DS1602_C.pdf; ComponentLink3Description: Discontinuation Notice; ComponentLink3URL: http://www.maxim-ic.com/qa/pdfs/non-obsolescence-letter.pdf
footprint SOIC8WA_N (SOP, 8-Leads, Body 5.3x5.3mm, Pitch 1.27mm, IPC Medium Density)
footprint SOIC8WA_L (SOP, 8-Leads, Body 5.3x5.3mm, Pitch 1.27mm, IPC High Density)
footprint SOIC8WA_M (SOP, 8-Leads, Body 5.3x5.3mm, Pitch 1.27mm, IPC Low Density)
pins: 1 ~{RST} (in), 2 DQ (io), 3 CLK (in), 4 GND (power), 5 VBAT (power), 6 X2 (in), 7 X1 (in), 8 VCC (power)

## DS1603
designator U?
Elapsed Time Counter Module; Note: Pin number 4 is Not Connected (NC); Published: 13-Oct-2000; LatestRevisionDate: 17-Jul-2002; LatestRevisionNote: Re-released for DXP Platform.; DatasheetVersion: 2-Aug-1999; PackageVersion: Aug-1999; PackageReference: ENSIP7; Publisher: Altium Limited; PackageDescription: SIP; 7 Leads; Body 21.3 x 16.8 mm (LxW typ); Pitch 2.54 mm; ComponentLink1Description: Manufacturer Link; ComponentLink1URL: http://www.maxim-ic.com/; ComponentLink2Description: Datasheet; ComponentLink2URL: http://pdfserv.maxim-ic.com/en/ds/DS1603.pdf; ComponentLink3Description: Discontinuation Notice; ComponentLink3URL: http://www.maxim-ic.com/qa/pdfs/non-obsolescence-letter.pdf
footprint ENSIP7 (SIP; 7 Leads; Body 21.3 x 16.8 mm (LxW typ); Pitch 2.54 mm)
pins: 1 VCC (power), 2 ~{RST} (in), 3 DQ (io), 4 NC, 5 CLK (in), 6 OSC (out), 7 GND (power)

## DS1608
designator U?
EconoRAM Time Chip; Note: Pin numbers 7 and 12 are Not Connected (NC); Published: 13-Oct-2000; LatestRevisionDate: 17-Jul-2002; LatestRevisionNote: Re-released for DXP Platform.; DatasheetVersion: 9-Nov-1993; PackageVersion: 1999; PackageReference: DIP16; Publisher: Altium Limited; PackageDescription: DIP, 16-Pin, Row Spacing 7.62 mm, Pitch 2.54 mm; ComponentLink1Description: Manufacturer Link; ComponentLink1URL: http://www.maxim-ic.com/
footprint DIP16 (DIP, 16-Leads, Row Spacing 7.62mm, Pitch 2.54mm, Body 19.31x6.35mm)
pins: 1 VCC (power), 2 ~{IRQ} (oc), 3 ~{RST} (in), 4 DQ (io), 5 I/O (io), 6 CLK (in), 7 NC, 8 GND (power), 9 VBATB (power), 10 VBATO (power), 11 1Hz (oc), 12 NC, 13 GND (power), 14 X1 (in), 15 X2 (in), 16 VCC (power)

## DS1608S
designator U?
EconoRAM Time Chip; Note: Pin numbers 7 and 12 are Not Connected (NC); Published: 13-Oct-2000; LatestRevisionDate: 13-Apr-2006; LatestRevisionNote: IPC-7351 Footprint Added.; DatasheetVersion: 9-Nov-1993; PackageVersion: 1999; PackageReference: SOIC16W; Publisher: Altium Limited; PackageDescription: 16-Pin Small Outline Integrated Circuit 1.27 mm Pitch; ComponentLink1Description: Manufacturer Link; ComponentLink1URL: http://www.maxim-ic.com/
footprint SOIC16W_N (SOIC, 16-Leads, Body 10.3x7.5mm, Pitch 1.27mm, IPC Medium Density)
footprint SOIC16W_L (SOIC, 16-Leads, Body 10.3x7.5mm, Pitch 1.27mm, IPC High Density)
footprint SOIC16W_M (SOIC, 16-Leads, Body 10.3x7.5mm, Pitch 1.27mm, IPC Low Density)
pins: 1 VCC (power), 2 ~{IRQ} (oc), 3 ~{RST} (in), 4 DQ (io), 5 I/O (io), 6 CLK (in), 7 NC, 8 GND (power), 9 VBATB (power), 10 VBATO (power), 11 1Hz (oc), 12 NC, 13 GND (power), 14 X1 (in), 15 X2 (in), 16 VCC (power)

## DS1670E
designator U?
Portable System Controller; Published: 13-Oct-2000; LatestRevisionDate: 20-Nov-2009; LatestRevisionNote: IPC-7351 Footprint Added.; DatasheetVersion: 23-Mar-1999; PackageReference: TSSOP20; Publisher: Altium Limited; PackageDescription: 20-Pin Thin Small Outline Package 0.65 mm Pitch; ComponentLink1Description: Manufacturer Link; ComponentLink1URL: http://www.maxim-ic.com/; ComponentLink2Description: Datasheet; ComponentLink2URL: http://pdfserv.maxim-ic.com/en/ds/DS1670.pdf
footprint TSSOP20_N (TSOP, 20-Leads, Body 6.5x4.4mm, Pitch 0.65mm, IPC Medium Density)
footprint TSSOP20_L (TSOP, 20-Leads, Body 6.5x4.4mm, Pitch 0.65mm, IPC High Density)
footprint TSSOP20_M (TSOP, 20-Leads, Body 6.5x4.4mm, Pitch 0.65mm, IPC Low Density)
pins: 1 VBAT (power), 2 VCCO (power), 3 SCLK (in), 4 I/O (io), 5 CS (in), 6 ~{CEI} (in), 7 ~{CEOL} (out), 8 ~{CEOH} (out), 9 INT (out), 10 GND (power), 11 ~{BHE} (in), 12 ~{BLE} (in), 13 ~{RST} (io), 14 AIN2 (in), 15 AIN1 (in), 16 AIN0 (in), 17 X2 (in), 18 X1 (in), 19 VCC (power), 20 ~{ST} (in)

## DS1670S
designator U?
Portable System Controller; Published: 13-Oct-2000; LatestRevisionDate: 13-Apr-2006; LatestRevisionNote: IPC-7351 Footprint Added.; DatasheetVersion: 23-Mar-1999; PackageVersion: 1999; PackageReference: SOIC20; Publisher: Altium Limited; PackageDescription: 20-Pin Small Outline Integrated Circuit 1.27 mm Pitch; ComponentLink1Description: Manufacturer Link; ComponentLink1URL: http://www.maxim-ic.com/; ComponentLink2Description: Datasheet; ComponentLink2URL: http://pdfserv.maxim-ic.com/en/ds/DS1670.pdf
footprint SOIC20_N (SOIC, 20-Leads, Body 12.8x7.5mm, Pitch 1.27mm, IPC Medium Density)
footprint SOIC20_L (SOIC, 20-Leads, Body 12.8x7.5mm, Pitch 1.27mm, IPC High Density)
footprint SOIC20_M (SOIC, 20-Leads, Body 12.8x7.5mm, Pitch 1.27mm, IPC Low Density)
pins: 1 VBAT (power), 2 VCCO (power), 3 SCLK (in), 4 I/O (io), 5 CS (in), 6 ~{CEI} (in), 7 ~{CEOL} (out), 8 ~{CEOH} (out), 9 INT (out), 10 GND (power), 11 ~{BHE} (in), 12 ~{BLE} (in), 13 ~{RST} (io), 14 AIN2 (in), 15 AIN1 (in), 16 AIN0 (in), 17 X2 (in), 18 X1 (in), 19 VCC (power), 20 ~{ST} (in)

## DS1685-3
designator U?
3V Real-Time Clock; Published: 13-Oct-2000; LatestRevisionDate: 17-Jul-2002; LatestRevisionNote: Re-released for DXP Platform.; DatasheetVersion: 2-Mar-1999; PackageVersion: 1999; PackageReference: DIP24W; Publisher: Altium Limited; PackageDescription: DIP, 24-Pin, Row Spacing 15.24 mm, Pitch 2.54 mm; ComponentLink1Description: Manufacturer Link; ComponentLink1URL: http://www.maxim-ic.com/; ComponentLink2Description: Datasheet; ComponentLink2URL: http://pdfserv.maxim-ic.com/en/ds/DS1685-DS1687.pdf; ComponentLink3Description: Discontinuation Notice; ComponentLink3URL: http://www.maxim-ic.com/qa/pdfs/non-obsolescence-letter.pdf
footprint DIP24W (DIP, 24-Leads, Row Spacing 15.24mm, Pitch 2.54mm, Body 31.94x13.72mm)
pins: 1 ~{PWR} (oc), 2 X1 (in), 3 X2 (in), 4 AD0 (io), 5 AD1 (io), 6 AD2 (io), 7 AD3 (io), 8 AD4 (io), 9 AD5 (io), 10 AD6 (io), 11 AD7 (io), 12 GND (power), 13 ~{CS} (in), 14 ALE (in), 15 ~{WR} (in), 16 GND (power), 17 ~{RD} (in), 18 ~{KS} (in), 19 ~{IRQ} (oc), 20 VBAT (power), 21 ~{RCLR} (in), 22 VBAUX (in), 23 SQW (out), 24 VCC (power)

## DS1685-5
designator U?
5V Real-Time Clock; Published: 13-Oct-2000; LatestRevisionDate: 17-Jul-2002; LatestRevisionNote: Re-released for DXP Platform.; DatasheetVersion: 2-Mar-1999; PackageVersion: 1999; PackageReference: DIP24W; Publisher: Altium Limited; PackageDescription: DIP, 24-Pin, Row Spacing 15.24 mm, Pitch 2.54 mm; ComponentLink1Description: Manufacturer Link; ComponentLink1URL: http://www.maxim-ic.com/; ComponentLink2Description: Datasheet; ComponentLink2URL: http://pdfserv.maxim-ic.com/en/ds/DS1685-DS1687.pdf; ComponentLink3Description: Discontinuation Notice; ComponentLink3URL: http://www.maxim-ic.com/qa/pdfs/non-obsolescence-letter.pdf
footprint DIP24W (DIP, 24-Leads, Row Spacing 15.24mm, Pitch 2.54mm, Body 31.94x13.72mm)
pins: 1 ~{PWR} (oc), 2 X1 (in), 3 X2 (in), 4 AD0 (io), 5 AD1 (io), 6 AD2 (io), 7 AD3 (io), 8 AD4 (io), 9 AD5 (io), 10 AD6 (io), 11 AD7 (io), 12 GND (power), 13 ~{CS} (in), 14 ALE (in), 15 ~{WR} (in), 16 GND (power), 17 ~{RD} (in), 18 ~{KS} (in), 19 ~{IRQ} (oc), 20 VBAT (power), 21 ~{RCLR} (in), 22 VBAUX (in), 23 SQW (out), 24 VCC (power)

## DS1685E-3
designator U?
3V Real-Time Clock; Published: 13-Oct-2000; LatestRevisionDate: 20-Nov-2009; LatestRevisionNote: IPC-7351 Footprint Added.; DatasheetVersion: 2-Mar-1999; PackageReference: TSSOP24; Publisher: Altium Limited; PackageDescription: 24-Pin Thin Small Outline Package 0.65 mm Pitch; ComponentLink1Description: Manufacturer Link; ComponentLink1URL: http://www.maxim-ic.com/; ComponentLink2Description: Datasheet; ComponentLink2URL: http://pdfserv.maxim-ic.com/en/ds/DS1685-DS1687.pdf; ComponentLink3Description: Discontinuation Notice; ComponentLink3URL: http://www.maxim-ic.com/qa/pdfs/non-obsolescence-letter.pdf
footprint TSSOP24_N (TSOP, 24-Leads, Body 7.8x4.4mm, Pitch 0.65mm, IPC Medium Density)
footprint TSSOP24_L (TSOP, 24-Leads, Body 7.8x4.4mm, Pitch 0.65mm, IPC High Density)
footprint TSSOP24_M (TSOP, 24-Leads, Body 7.8x4.4mm, Pitch 0.65mm, IPC Low Density)
pins: 1 ~{PWR} (oc), 2 X1 (in), 3 X2 (in), 4 AD0 (io), 5 AD1 (io), 6 AD2 (io), 7 AD3 (io), 8 AD4 (io), 9 AD5 (io), 10 AD6 (io), 11 AD7 (io), 12 GND (power), 13 ~{CS} (in), 14 ALE (in), 15 ~{WR} (in), 16 GND (power), 17 ~{RD} (in), 18 ~{KS} (in), 19 ~{IRQ} (oc), 20 VBAT (power), 21 ~{RCLR} (in), 22 VBAUX (in), 23 SQW (out), 24 VCC (power)

## DS1685E-5
designator U?
5V Real-Time Clock; Published: 13-Oct-2000; LatestRevisionDate: 20-Nov-2009; LatestRevisionNote: IPC-7351 Footprint Added.; DatasheetVersion: 2-Mar-1999; PackageReference: TSSOP24; Publisher: Altium Limited; PackageDescription: 24-Pin Thin Small Outline Package 0.65 mm Pitch; ComponentLink1Description: Manufacturer Link; ComponentLink1URL: http://www.maxim-ic.com/; ComponentLink2Description: Datasheet; ComponentLink2URL: http://pdfserv.maxim-ic.com/en/ds/DS1685-DS1687.pdf; ComponentLink3Description: Discontinuation Notice; ComponentLink3URL: http://www.maxim-ic.com/qa/pdfs/non-obsolescence-letter.pdf
footprint TSSOP24_N (TSOP, 24-Leads, Body 7.8x4.4mm, Pitch 0.65mm, IPC Medium Density)
footprint TSSOP24_L (TSOP, 24-Leads, Body 7.8x4.4mm, Pitch 0.65mm, IPC High Density)
footprint TSSOP24_M (TSOP, 24-Leads, Body 7.8x4.4mm, Pitch 0.65mm, IPC Low Density)
pins: 1 ~{PWR} (oc), 2 X1 (in), 3 X2 (in), 4 AD0 (io), 5 AD1 (io), 6 AD2 (io), 7 AD3 (io), 8 AD4 (io), 9 AD5 (io), 10 AD6 (io), 11 AD7 (io), 12 GND (power), 13 ~{CS} (in), 14 ALE (in), 15 ~{WR} (in), 16 GND (power), 17 ~{RD} (in), 18 ~{KS} (in), 19 ~{IRQ} (oc), 20 VBAT (power), 21 ~{RCLR} (in), 22 VBAUX (in), 23 SQW (out), 24 VCC (power)

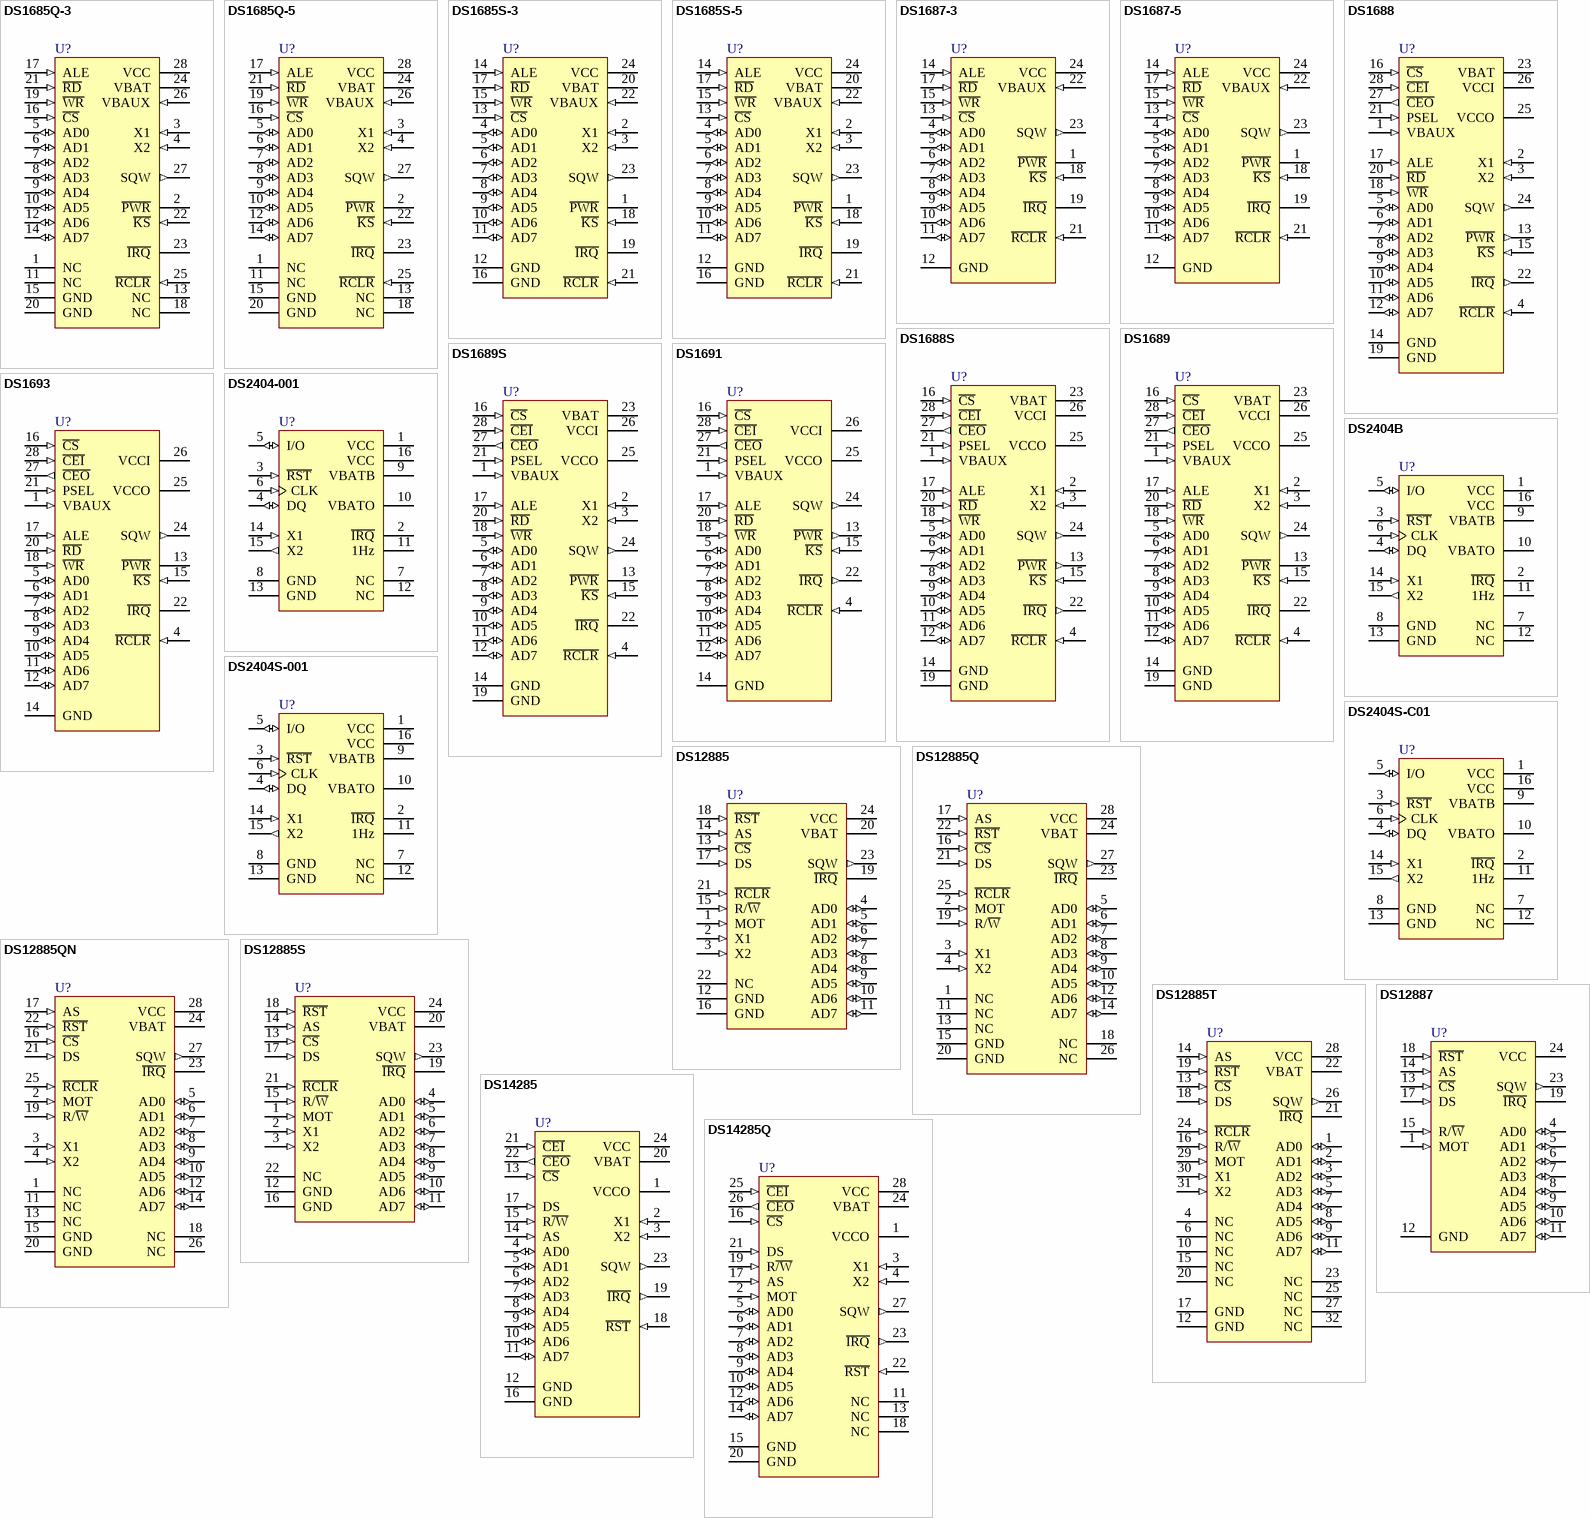
[diagram p5: symbols DS1685Q-3 to DS14285Q]

## DS1685Q-3
designator U?
3V Real-Time Clock; Note: Pin numbers 1, 11, 13 and 18 are Not Connected (NC); Published: 13-Oct-2000; LatestRevisionDate: 13-Apr-2006; LatestRevisionNote: IPC-7351 Footprint Added.; DatasheetVersion: 2-Mar-1999; PackageVersion: Rev D, Feb-2006; PackageReference: PLCC28; Publisher: Altium Limited; PackageDescription: 28-Pin Leaded Chip Carrier 1.27 mm Pitch; Code_IPC: PLCC-28; ComponentLink1Description: Manufacturer Link; ComponentLink1URL: http://www.maxim-ic.com/; ComponentLink2Description: Datasheet; ComponentLink2URL: http://pdfserv.maxim-ic.com/en/ds/DS1685-DS1687.pdf; ComponentLink3Description: Discontinuation Notice; ComponentLink3URL: http://www.maxim-ic.com/qa/pdfs/non-obsolescence-letter.pdf
footprint PLCC28_N (Leaded Chip Carrier, 28-Leads, Body 11.5x11.5mm, Pitch 1.27mm, IPC Medium Density)
footprint PLCC28_L (Leaded Chip Carrier, 28-Leads, Body 11.5x11.5mm, Pitch 1.27mm, IPC High Density)
footprint PLCC28_M (Leaded Chip Carrier, 28-Leads, Body 11.5x11.5mm, Pitch 1.27mm, IPC Low Density)
pins: 1 NC, 2 ~{PWR} (oc), 3 X1 (in), 4 X2 (in), 5 AD0 (io), 6 AD1 (io), 7 AD2 (io), 8 AD3 (io), 9 AD4 (io), 10 AD5 (io), 11 NC, 12 AD6 (io), 13 NC, 14 AD7 (io), 15 GND (power), 16 ~{CS} (in), 17 ALE (in), 18 NC, 19 ~{WR} (in), 20 GND (power), 21 ~{RD} (in), 22 ~{KS} (in), 23 ~{IRQ} (oc), 24 VBAT (power), 25 ~{RCLR} (in), 26 VBAUX (in), 27 SQW (out), 28 VCC (power)

## DS1685Q-5
designator U?
5V Real-Time Clock; Note: Pin numbers 1, 11, 13 and 18 are Not Connected (NC); Published: 13-Oct-2000; LatestRevisionDate: 13-Apr-2006; LatestRevisionNote: IPC-7351 Footprint Added.; DatasheetVersion: 2-Mar-1999; PackageVersion: Rev D, Feb-2006; PackageReference: PLCC28; Publisher: Altium Limited; PackageDescription: 28-Pin Leaded Chip Carrier 1.27 mm Pitch; Code_IPC: PLCC-28; ComponentLink1Description: Manufacturer Link; ComponentLink1URL: http://www.maxim-ic.com/; ComponentLink2Description: Datasheet; ComponentLink2URL: http://pdfserv.maxim-ic.com/en/ds/DS1685-DS1687.pdf; ComponentLink3Description: Discontinuation Notice; ComponentLink3URL: http://www.maxim-ic.com/qa/pdfs/non-obsolescence-letter.pdf
footprint PLCC28_N (Leaded Chip Carrier, 28-Leads, Body 11.5x11.5mm, Pitch 1.27mm, IPC Medium Density)
footprint PLCC28_L (Leaded Chip Carrier, 28-Leads, Body 11.5x11.5mm, Pitch 1.27mm, IPC High Density)
footprint PLCC28_M (Leaded Chip Carrier, 28-Leads, Body 11.5x11.5mm, Pitch 1.27mm, IPC Low Density)
pins: 1 NC, 2 ~{PWR} (oc), 3 X1 (in), 4 X2 (in), 5 AD0 (io), 6 AD1 (io), 7 AD2 (io), 8 AD3 (io), 9 AD4 (io), 10 AD5 (io), 11 NC, 12 AD6 (io), 13 NC, 14 AD7 (io), 15 GND (power), 16 ~{CS} (in), 17 ALE (in), 18 NC, 19 ~{WR} (in), 20 GND (power), 21 ~{RD} (in), 22 ~{KS} (in), 23 ~{IRQ} (oc), 24 VBAT (power), 25 ~{RCLR} (in), 26 VBAUX (in), 27 SQW (out), 28 VCC (power)

## DS1685S-3
designator U?
3V Real-Time Clock; Published: 13-Oct-2000; LatestRevisionDate: 13-Apr-2006; LatestRevisionNote: IPC-7351 Footprint Added.; DatasheetVersion: 2-Mar-1999; PackageVersion: 1999; PackageReference: SOIC24N; Publisher: Altium Limited; PackageDescription: 24-Pin Small Outline Integrated Circuit 1.27 mm Pitch; Code_IPC: SOIC127P1047-24; ComponentLink1Description: Manufacturer Link; ComponentLink1URL: http://www.maxim-ic.com/; ComponentLink2Description: Datasheet; ComponentLink2URL: http://pdfserv.maxim-ic.com/en/ds/DS1685-DS1687.pdf; ComponentLink3Description: Discontinuation Notice; ComponentLink3URL: http://www.maxim-ic.com/qa/pdfs/non-obsolescence-letter.pdf
footprint SOIC24N_N (SOIC, 24-Leads, Body 15.4x7.5mm, Pitch 1.27mm, IPC Medium Density)
footprint SOIC24N_L (SOIC, 24-Leads, Body 15.4x7.5mm, Pitch 1.27mm, IPC High Density)
footprint SOIC24N_M (SOIC, 24-Leads, Body 15.4x7.5mm, Pitch 1.27mm, IPC Low Density)
pins: 1 ~{PWR} (oc), 2 X1 (in), 3 X2 (in), 4 AD0 (io), 5 AD1 (io), 6 AD2 (io), 7 AD3 (io), 8 AD4 (io), 9 AD5 (io), 10 AD6 (io), 11 AD7 (io), 12 GND (power), 13 ~{CS} (in), 14 ALE (in), 15 ~{WR} (in), 16 GND (power), 17 ~{RD} (in), 18 ~{KS} (in), 19 ~{IRQ} (oc), 20 VBAT (power), 21 ~{RCLR} (in), 22 VBAUX (in), 23 SQW (out), 24 VCC (power)